# Altium schematic symbol library SCH - CRYSTALS - ABRACON ATXAIG-H13.SchLib: 1 symbol
Pins are listed as number, name and electrical type; pins without a type are passive.

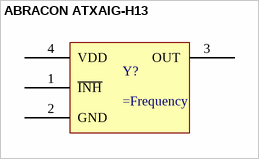
[diagram p0: symbol ABRACON ATXAIG-H13]

## ABRACON ATXAIG-H13
designator Y?
pins: 1 ~{INH}, 2 GND, 3 OUT, 4 VDD